# Altium schematic symbol library estop12.SchLib: 2 symbols
Pins are listed as number, name and electrical type; pins without a type are passive.

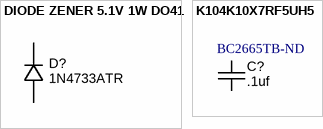
[diagram p0: symbols DIODE ZENER 5.1V 1W DO41 to K104K10X7RF5UH5]

## DIODE ZENER 5.1V 1W DO41
designator D?, comment 1N4733ATR
DIODE ZENER 5.1V 1W DO41; Manufacturer 1: Fairchild Semiconductor; Ratings: 5.1V 1W; Diode Type: Standard; SCDType: spec; Package / Case: DO-41; Mounting Type: Through Hole; Manufacturer Part Number 1: 1N4733ATR
footprint DO-41 (Diode, thru-hole)
pins: A, K

## K104K10X7RF5UH5
designator C?  value .1uf  Supplier Part Number 1: BC2665TB-ND  (hidden comment: K104K10X7RF5UH5)
0.10µF ±10% 50V X7R Ceramic Capacitor -55°C ~ 125°C Through Hole Radial 0.142" L x 0.091" W (3.60mm x 2.30mm); Ratings: 50V; X7R; SCDType: source*; Tolerance: ±10%; Operating Temperature: -55°C ~ 125°C; Package / Case: Thru Hole 5mm spacing; Supplier 1: Digi-Key
footprint CAPC500P450250X550 (TDK FK24 radial ceramic capacitor)
pins: 1, 2